# Altium schematic symbol library PESD0402-140.SchLib: 1 symbol
Pins are listed as number, name and electrical type; pins without a type are passive.

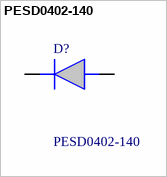
[diagram p0: symbol PESD0402-140]

## PESD0402-140
designator D?
TVS Diode Bi-Directional PESD0402-140 40V, SOD-923 2-Pin; Manufacturer_Name: TE Connectivity; Geometry.Height: 0.43mm; Manufacturer_Part_Number: PESD0402-140; Mouser Part Number: *; Mouser Price/Stock: *; Arrow Part Number: *; Arrow Price/Stock: *; Datasheet Link: https://datasheet.datasheetarchive.com/originals/distributors/Datasheets_SAMA/56453c9e7d16e16b45297983777b3114.pdf
footprint DIONC1005X43N
pins: 1 K, 2 A